# EAGLE library part SKMW30G-12 (library SKMW30G-12)
Isolated Module DC DC Converter 1 Output 12V 2.5A 18V - 75V Input Source: Datasheet <https://media.digikey.com/pdf/Data Sheets/Mean Well PDF>
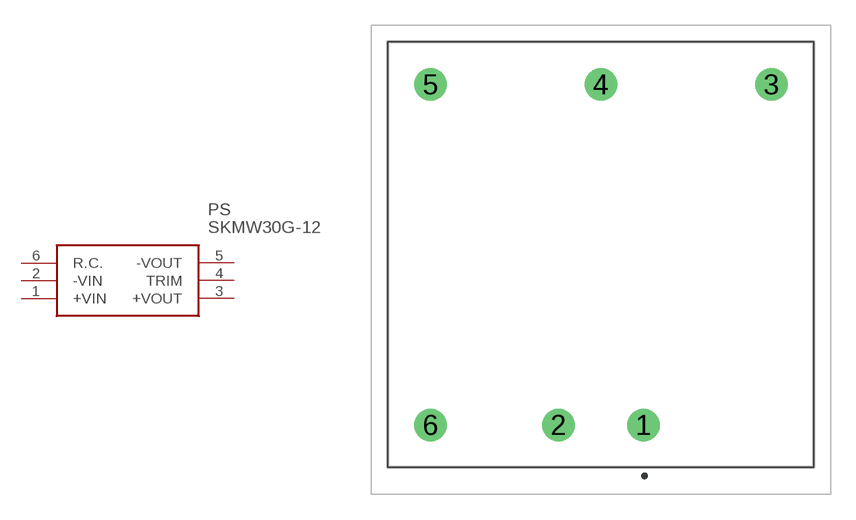
[diagram p0: symbol with the pads of SKMW30G12; footprint SKMW30G12]

Designator prefix PS

## SKMW30G-12 (Allied_Number: 71028299; Allied_Price-Stock: https://www.alliedelec.com/meanwellusa-skmw30g-12/71028299/; Description: Isolated Module DC DC Converter 1 Output 12V 2.5A 18V - 75V Input; Height: 10.2mm; Manufacturer_Name: Mean Well; Manufacturer_Part_Number: SKMW30G-12; Mouser_Part_Number: 709-SKMW30G-12; Mouser_Price-Stock: https://www.mouser.com/Search/Refine.aspx?Keyword=709-SKMW30G-12)  [SKMW30G12]
1  +VIN
2  -VIN
3  +VOUT
4  TRIM
5  -VOUT
6  R.C.

## Footprint SKMW30G12 (pad centres in mm)
SKMW30
drill 1.3 pad 1.9: 1 0,0; 2 -5.08,0; 3 7.62,20.32; 4 -2.54,20.32; 5 -12.7,20.32; 6 -12.7,0